# EAGLE library part LM393 (library BME_Components)
Low Power Low Offset Voltage Dual Comparator, 8-pin MDIP
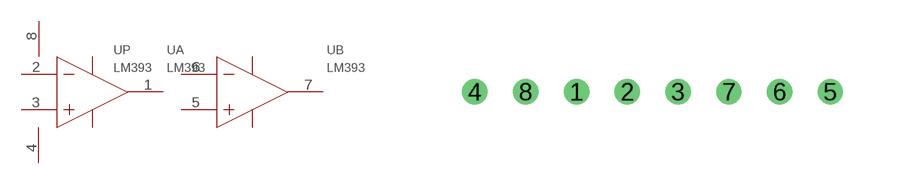
[diagram p23: symbol with the pads of LM393_PDIP-8; footprint LM393_PDIP-8]

Designator prefix U; gates P=LM393_P A=LM393_A B=LM393_B

## LM393LM393_LM393_PDIP-8 (CODE_JEDEC: MS-001-BA; COMPONENTLINK1DESCRIPTION: Datasheet URL; COMPTYPE: Amplifiers; MANUFACTURER: Texas Instruments; PACKAGEDESCRIPTION: MDIP, .365 x .250 x .130in, 8 Lead, .100in Pitch; PACKAGETOPMARKING: NSUZXYTTE#*LM*393N; PACKAGE_REFERENCE: P0008A; PARTID: 1; PINCOUNT: 8; POWERWISE: N; ROHS: N)  [LM393_PDIP-8]
1  A:OUTA  out
2  A:INA-  in
3  A:INA+  in
4  P:GND  pwr
5  B:INB+  in
6  B:INB-  in
7  B:OUTB  out
8  P:V+  pwr

## Footprint LM393_PDIP-8 (pad centres in mm)
drill 0.127 pad 0.254 round: 1 2.54,0; 2 3.81,0; 3 5.08,0; 4 0,0; 5 8.89,0; 6 7.62,0; 7 6.35,0; 8 1.27,0